# Altium footprint library C19268654.PcbLib: 1 footprints
Each footprint in its own frame and in the unit in brackets; x right, y up, seen from the top. Pads: shape width x height; smd on the part's side, far side on the other; paste and mask are expansions set on the pad; w line width, h text height; cw(c..) or ccw(c..) is an arc to the next point about the centre after c.
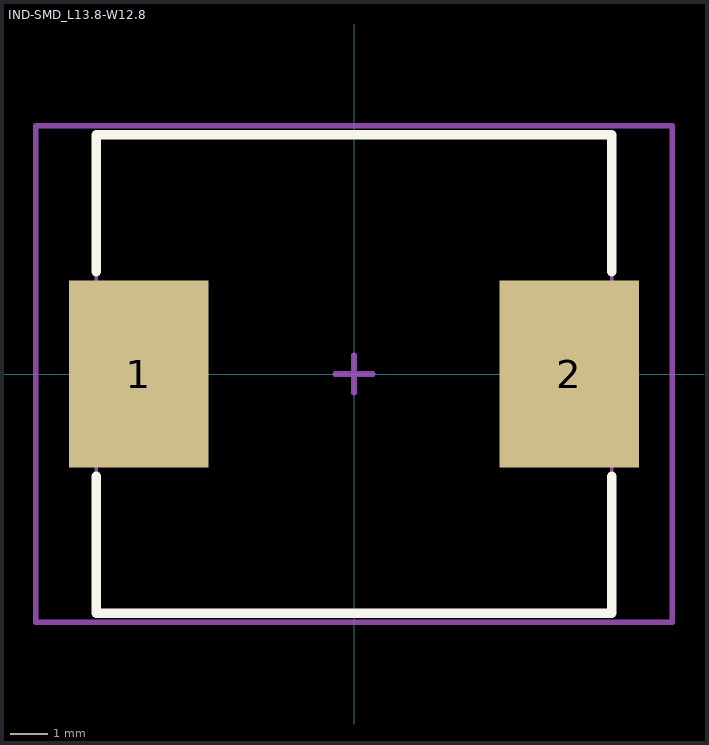
[diagram p0: the footprint, top view; thin cyan lines are the x and y axes]

## IND-SMD_L13.8-W12.8 [mm] "20A 3.3uH ±20% 32A Molded inductor SMD,13.8x12.8mm Fixed Inductors"
pads (2):
  rect 3.735x5 smd: 1(-5.768,0) 2(5.768,0)
Top Overlay:
  circle w0.06: c-6.9,-6.4 r0.03
  lines w0.254: -6.9,-2.731 -6.9,-6.4 6.9,-6.4 6.9,-2.731 ; -6.9,2.731 -6.9,6.4 6.9,6.4 6.9,2.731
AOI:
  region: 4.9,1.9 6.9,1.9 6.9,-1.9 4.9,-1.9
  region: -6.9,1.9 -4.9,1.9 -4.9,-1.9 -6.9,-1.9
Top 3D Body:
  lines w0.1: -6.9,-6.4 6.9,-6.4 6.9,6.4 -6.9,6.4 -6.9,-6.4
Top Courtyard:
  lines w0.15: -0.5,0 0.5,0 ; 0,-0.5 0,0.5 ; -8.518,-6.65 8.518,-6.65 8.518,6.65 -8.518,6.65 -8.518,-6.65
3D body "IND-SMD_L13.8-W12.8.step": height 0.03, standoff 0, extent -6.9,-6.4 6.9,6.4